# Altium integrated library USB2066-05-RBHM-XX-STB-00-01-A_REVD.IntLib: 1 symbol
Pins are listed as number, name and electrical type; pins without a type are passive.

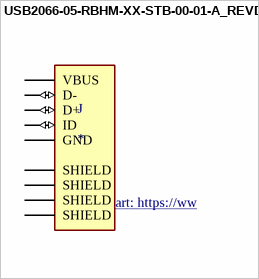
[diagram p0: symbol USB2066-05-RBHM-XX-STB-00-01-A_REVD]

## USB2066-05-RBHM-XX-STB-00-01-A_REVD
designator J
USB - mini B USB 2.0 Receptacle Connector 5 Position Surface Mount, Right Angle; Through Hole; MP: USB2066-05-RBHM-15-STB-00-01-A; MF: Global Connector Technology; Package: None; Value: *; Availability: Unavailable; SnapEDA_Link: https://www.snapeda.com/parts/USB2066-05-RBHM-15-STB-00-01-A/Global%20Connector%20Technology/view-part/812955/?ref=snap; Price: None; BuyPart: https://www.snapeda.com/parts/USB2066-05-RBHM-15-STB-00-01-A/Global%20Connector%20Technology/view-part/812955/?ref=eda
footprint GCT_USB2066-05-RBHM-XX-STB-00-01-A_REVD
pins: 1 VBUS (power), 2 D- (io), 3 D+ (io), 4 ID (io), 5 GND (power), 6 SHIELD, 7 SHIELD, 8 SHIELD, 9 SHIELD